# EAGLE library part TERM_1X6_0.1 (library dsantoro-conn)
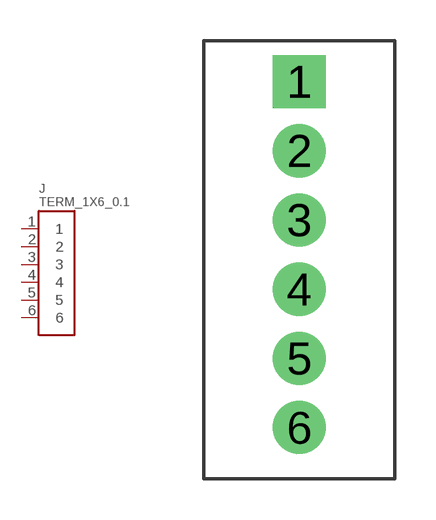
[diagram p17: symbol with the pads of TERM_1X6_0.1; footprint TERM_1X6_0.1]

Designator prefix J

## TERM_1X6_0.1  [TERM_1X6_0.1]
1  1
2  2
3  3
4  4
5  5
6  6

## Footprint TERM_1X6_0.1 (pad centres in mm)
drill 1.3 square: 1 0,0
drill 1.3: 2 0,-2.54; 3 0,-5.08; 4 0,-7.62; 5 0,-10.16; 6 0,-12.7